# EAGLE library part 649022227222 (library Wire_to_Board_Connectors_rev15d)
WR-MPC4-4.20mm Male Dual Row Angled Header with Mounting Pegs,22 pins=>Code : Con_WTB_MPC4_2_PCB_649022227222 <http://katalog.we-online.de/media/thumbs2/eican/thb_Con_WTB_MPC4_2_PCB_6490xx227222_pf2.jpg> Details see: http://katalog.we-online.de/en/em/649_0xx_227_222 Created 2014-06-06, Karrer Zheng 2014 (C) Würth Elektronik
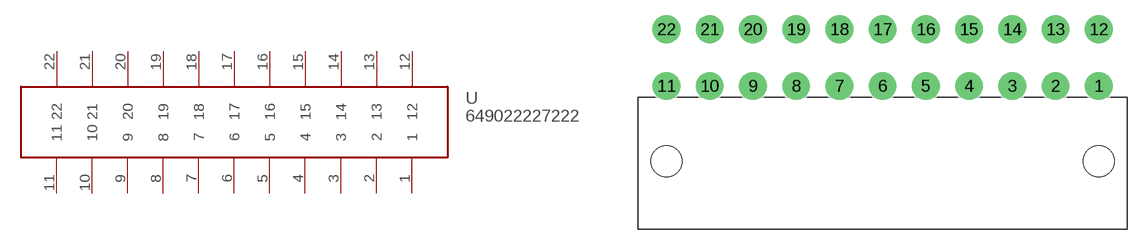
[diagram p318: symbol with the pads of 649022227222; footprint 649022227222]

Designator prefix -

## 649022227222  [649022227222]
1  1
2  2
3  3
4  4
5  5
6  6
7  7
8  8
9  9
10  10
11  11
12  12
13  13
14  14
15  15
16  16
17  17
18  18
19  19
20  20
21  21
22  22

## Footprint 649022227222 (pad centres in mm)
WR-MPC4-4.20mm Male Dual Row Angled Header with Mounting Pegs,22 pins
drill 1.8: 1 21,7.3; 2 16.8,7.3; 3 12.6,7.3; 4 8.4,7.3; 5 4.2,7.3; 6 0,7.3; 7 -4.2,7.3; 8 -8.4,7.3; 9 -12.6,7.3; 10 -16.8,7.3; 11 -21,7.3; 12 21,12.8; 13 16.8,12.8; 14 12.6,12.8; 15 8.4,12.8; 16 4.2,12.8; 17 0,12.8; 18 -4.2,12.8; 19 -8.4,12.8; 20 -12.6,12.8; 21 -16.8,12.8; 22 -21,12.8
hole 3 at -21,0
hole 3 at 21,0